# Altium footprint library SOT223-89.PcbLib: 1 footprints
Each footprint in its own frame and in the unit in brackets; x right, y up, seen from the top. Pads: shape width x height; smd on the part's side, far side on the other; paste and mask are expansions set on the pad; w line width, h text height; cw(c..) or ccw(c..) is an arc to the next point about the centre after c.
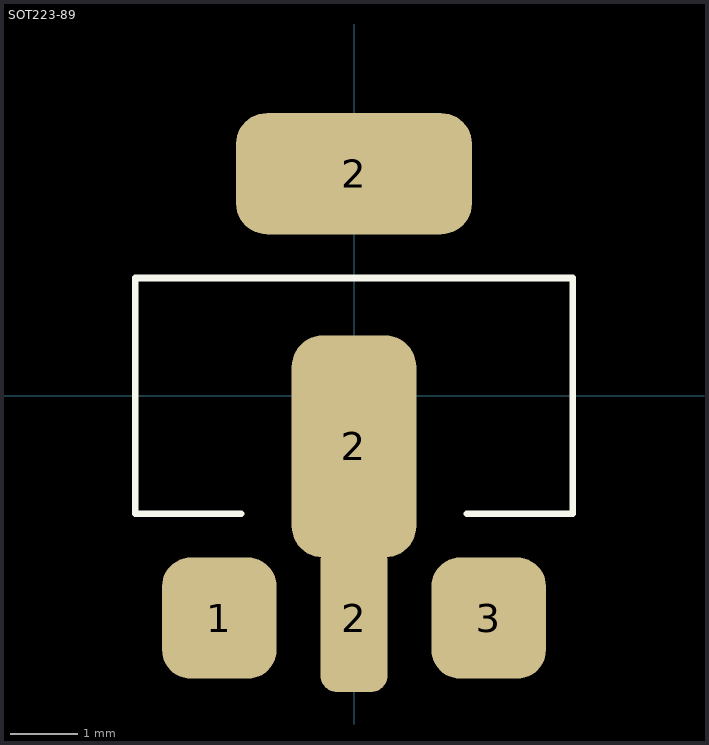
[diagram p0: the footprint, top view; thin cyan lines are the x and y axes]

## SOT223-89 [mm] "SOT-223/SC-73; 4 Leads; Body 6.7 x 7.3 mm, inc. leads (LxW max)"
height 1.8
pads (5):
  rrect50% 1.7x1.8 smd: 1(-2,-3.3) 3(2,-3.3)
  rrect50% 1.85x3.3 smd: 2(0,-0.75)
  rrect50% 1x2.2 smd: 2(0,-3.3)
  rrect50% 3.5x1.8 smd: 2(0,3.3)
Top Overlay:
  lines w0.1: -1.675,-1.75 -3.25,-1.75 -3.25,1.75 3.25,1.75 3.25,-1.75 1.675,-1.75
3D body "SOT223.STEP": height 1.7, standoff 0, extent -3.25,-3.5 3.25,3.5
3D body "SOT89.STEP": height 1.5, standoff 0, extent -2.25,-2.672 2.25,1.423